# Altium schematic symbol library LED.SchLib: 3 symbols
Pins are listed as number, name and electrical type; pins without a type are passive.

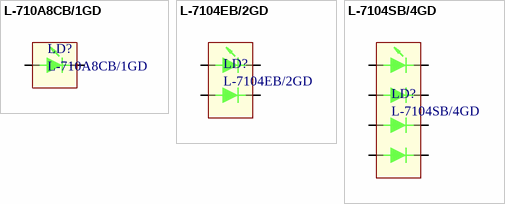
[diagram p0: symbols L-710A8CB/1GD to L-7104SB/4GD]

## L-710A8CB/1GD
designator LD?
Manufacture: Kingbright; Part number: L-710A8CB/1GD
footprint L-710A8CB/1GD
pins: 1 K, 2 A

## L-7104EB/2GD
designator LD?
Manufacture: Kingbright; Part number: L-7104EB/2GD
footprint L-7104EB/2GD
pins: 1 K1, 2 A1, 3 K2, 4 A2

## L-7104SB/4GD
designator LD?
Manufacture: Kingbright; Part number: L-7104SB/4GD
footprint L-7104SB/4GD
pins: 1 K1, 2 A1, 3 K2, 4 A2, 5 K3, 6 A3, 7 K4, 8 A4